# EAGLE library part ADS1255 (library spectrometer)
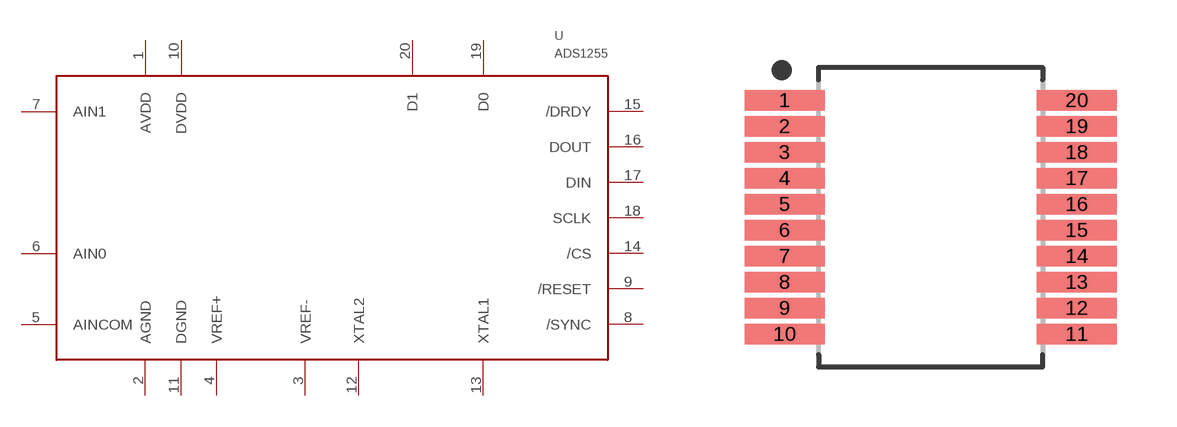
[diagram p3: symbol with the pads of SOP65P780X200-20; footprint SOP65P780X200-20]

Designator prefix U

## ADS1255TSSOP  [SOP65P780X200-20]
1  AVDD
2  AGND
3  VREF-
4  VREF+
5  AINCOM
6  AIN0
7  AIN1
8  /SYNC
9  /RESET
10  DVDD
11  DGND
12  XTAL2
13  XTAL1
14  /CS
15  /DRDY
16  DOUT
17  DIN
18  SCLK
19  D0
20  D1

## Footprint SOP65P780X200-20 (pad centres in mm)
20-SOP, 0.65 mm pitch, 7.80 mm span, 7.20 X 5.30 X 2.00 mm body 20-pin SOP package with 0.65 mm pitch, 7.80 mm span with body size 7.20 X 5.30 X 2.00 mm
smd 2.002 x 0.515: 1 -3.653,2.925; 2 -3.653,2.275; 3 -3.653,1.625; 4 -3.653,0.975; 5 -3.653,0.325; 6 -3.653,-0.325; 7 -3.653,-0.975; 8 -3.653,-1.625; 9 -3.653,-2.275; 10 -3.653,-2.925; 11 3.653,-2.925; 12 3.653,-2.275; 13 3.653,-1.625; 14 3.653,-0.975; 15 3.653,-0.325; 16 3.653,0.325; 17 3.653,0.975; 18 3.653,1.625; 19 3.653,2.275; 20 3.653,2.925